# Altium footprint library PCB - POWER MODULE - MEANWELL SCWN03.PCBLIB: 1 footprints
Each footprint in its own frame and in the unit in brackets; x right, y up, seen from the top. Pads: shape width x height; smd on the part's side, far side on the other; paste and mask are expansions set on the pad; w line width, h text height; cw(c..) or ccw(c..) is an arc to the next point about the centre after c.
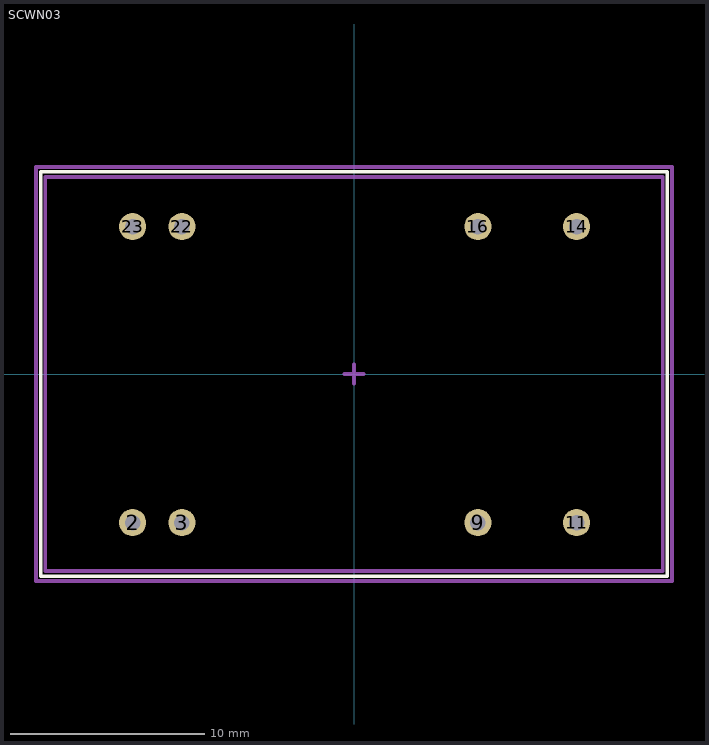
[diagram p0: the footprint, top view; thin cyan lines are the x and y axes]

## SCWN03 [mm] "3W DIP Package DC-DC Regulated Converter"
height 10.2
pads (8):
  round 1.4 hole 0.8: 2(-11.4,-7.65) 3(-8.86,-7.65) 9(6.38,-7.65) 11(11.46,-7.65) 14(11.46,7.59) 16(6.38,7.59) 22(-8.86,7.59) 23(-11.4,7.59)
Top Overlay:
  lines w0.2: -16.129,-10.414 -16.129,10.414 16.129,10.414 16.129,-10.414 -16.129,-10.414
Bottom Overlay:
  circle w0.15: c-13.94,-7.62 r0.7
  text "NC" at 12.237,-5.2 h2
  text "NC" at 7.157,-5.2 h2
  text "Vin+" at -9.343,7.1 h2
  text "Vout-" at 7.057,6.6 h2
  text "Vout+" at 12.057,6.6 h2
  text "Vin-" at -9.543,-4.4 h2
Top Component Center:
  lines w0.2: -0.5,0 0.5,0 ; 0,-0.5 0,0.5
Assy Top:
  lines w0.2: -15.9,-10.15 -15.9,10.15 15.9,10.15 15.9,-10.15 -15.9,-10.15
Top Courtyard (Mech15):
  lines w0.2: -16.383,-10.668 -16.383,10.668 16.383,10.668 16.383,-10.668 -16.383,-10.668
3D body: height 0, standoff -3.81, extent 11.16,7.29 11.76,7.89
3D body: height 0, standoff -3.81, extent 6.08,7.29 6.68,7.89
3D body: height 0, standoff -3.81, extent 11.16,-7.95 11.76,-7.35
3D body: height 0, standoff -3.81, extent 6.08,-7.95 6.68,-7.35
3D body: height 0, standoff -3.81, extent -9.16,-7.95 -8.56,-7.35
3D body: height 0, standoff -3.81, extent -11.7,-7.95 -11.1,-7.35
3D body: height 0, standoff -3.81, extent -9.16,7.29 -8.56,7.89
3D body: height 0, standoff -3.81, extent -11.7,7.29 -11.1,7.89
3D body: height 12.2, standoff 0, extent -15.92,-10.214 15.92,10.214